# Altium schematic symbol library LTC7000EMSE-1#PBF.SchLib: 9 symbols
Pins are listed as number, name and electrical type; pins without a type are passive.

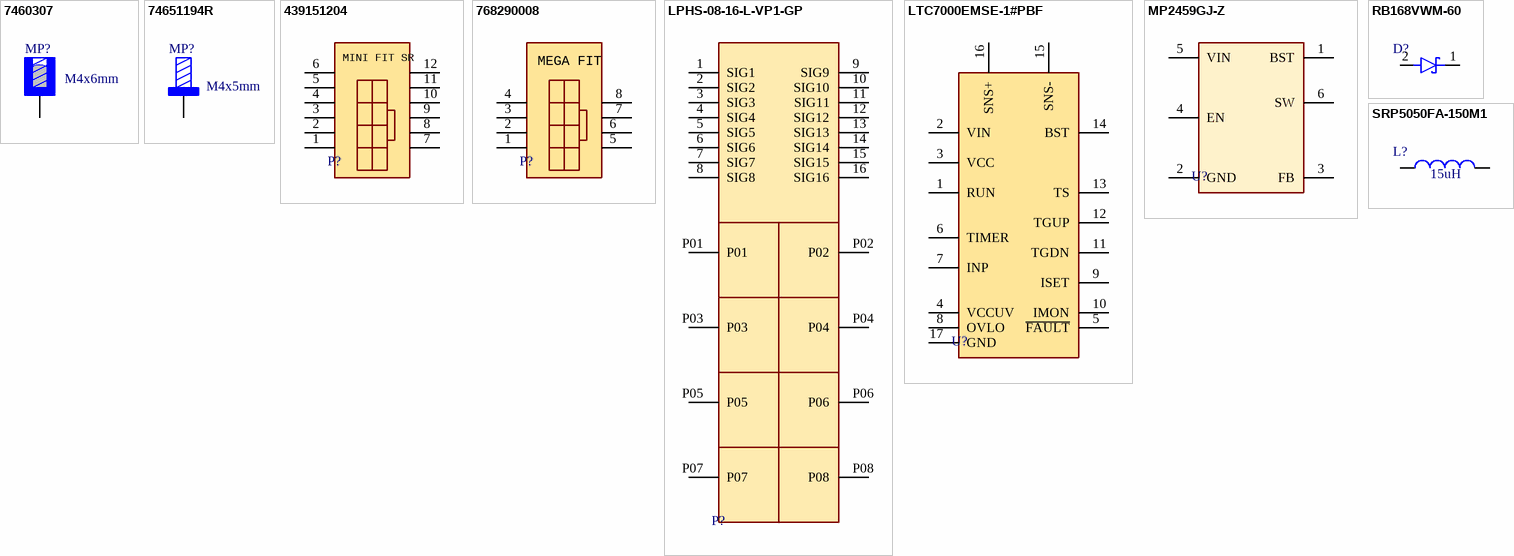
[diagram p0: symbols 7460307 to SRP5050FA-150M1]

## 7460307
designator MP?, comment M4x6mm
WP-BUTR REDCUBE PRESS-FIT with internal thread, two-rows, 9x9mm, height 7mm, M4x6mm, 160A; Manufacturer Part Number: 7460307; Manufacturer: Wurth Elektronik; Pin Number: 8; Thread Length: 6mm; Thread: M4; Surface: Tin; ComponentLink1Description: Manufacturer; ComponentLink1URL: http://www.we-online.de; ComponentLink2Description: Datasheet; ComponentLink2URL: https://www.we-online.com/catalog/datasheet/7460307.pdf; Operating Temperature: -55 to +150degC; Height: 7mm; Material: Brass; Packaging: Bulk; Mounting Technology: Press-Fit; Rated Current: 160A; Published Date: June 2021; Size: 9x9mm
footprint 7460305 (WP-BUTR Bushes with two Rows Pin-Plate, M5, blind thr 6mm)
pins: 1

## 74651194R
designator MP?, comment M4x5mm
WP-THRSH REDCUBE THR with external thread, 10x10mm, M4x5mm, 85A; Manufacturer Part Number: 74651194R; Manufacturer: Wurth Elektronik; Pin Number: 9; Thread: M4; Surface: Tin; Thread Length: 5mm; ComponentLink1Description: Manufacturer; ComponentLink1URL: http://www.we-online.de; ComponentLink2Description: Datasheet; ComponentLink2URL: https://www.we-online.com/catalog/datasheet/74651194R.pdf; Operating Temperature: -55 to +150degC; Height: 8.5mm; Material: Brass; Packaging: Tape and Reel; Mounting Technology: SMT; Rated Current: 85A; Published Date: June 2021; Size: 10x10mm
footprint 74651194
pins: 1

## 439151204
designator P?, comment 768290008  (value not drawn)
10.00mm Pitch Mini-Fit Sr. Header, Dual Row, Vertical, 1.57mm PCB Thickness, 0.76µm Gold (Au) Selective Plating, 12 Circuits
footprint 439151204
pins: 1, 2, 3, 4, 5, 6, 7, 8, 9, 10, 11, 12
text: MINI FIT SR

## 768290008
designator P?  (value not drawn)
Mega-Fit Vertical Header, Through Hole, 5.70mm Pitch, Dual Row, 8 Circuits, 1.52µm Tin (Sn) Plating, Glow-Wire Capable, Black
footprint 768290008
pins: 1, 2, 3, 4, 5, 6, 7, 8
text: MEGA FIT

## LPHS-08-16-L-VP1-GP
designator P?  (value not drawn)
footprint LPHS-08-16-L-VP1-GP
pins: 1 SIG1, 2 SIG2, 3 SIG3, 4 SIG4, 5 SIG5, 6 SIG6, 7 SIG7, 8 SIG8, 9 SIG9, 10 SIG10, 11 SIG11, 12 SIG12, 13 SIG13, 14 SIG14, 15 SIG15, 16 SIG16, P01, P02, P03, P04, P05, P06, P07, P08

## LTC7000EMSE-1#PBF
designator U?  (value not drawn)
Gate Drivers Fast 150V Protected High Side NMOS Static Switch Driver
pins: 1 RUN, 2 VIN, 3 VCC, 4 VCCUV, 5 ~{FAULT}, 6 TIMER, 7 INP, 8 OVLO, 9 ISET, 10 IMON, 11 TGDN, 12 TGUP, 13 TS, 14 BST, 15 SNS-, 16 SNS+, 17 GND

## MP2459GJ-Z
designator U?  (value not drawn)
Switching Voltage Regulators 500mA, 50V Non-sync Buck
footprint MP2459GJ-Z
pins: 1 BST, 2 GND, 3 FB, 4 EN, 5 VIN, 6 SW

## RB168VWM-60
designator D?  (value not drawn)
Schottky Diodes & Rectifiers 60V SCHOTTKY DIODE
footprint RB168VWM-60TR
pins: 1, 2

## SRP5050FA-150M1
designator L?  Inductance: 15uH  (hidden comment: SRP5050FA-150M1)
Fixed Inductors Ind,6x5.7x4.8mm,15uH+/-20%,4A,Shd AEC-Q200; SRF: 9MHz; DCR: 66mOhms (max); Isat: 5.5A; Tolerance: 20%
footprint SRP5050FA-150M1
pins: 1, 2